# EAGLE library part OKL-T/6-W12N-C (library OKL_T6_W12N_C)
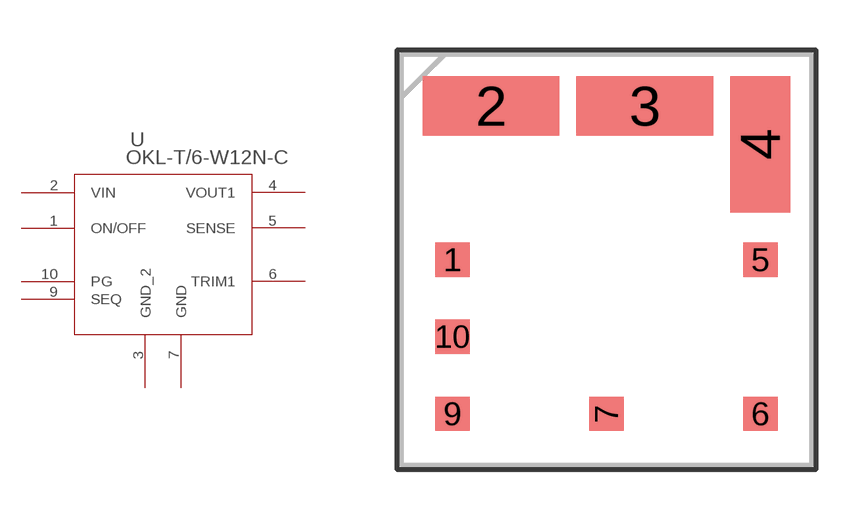
[diagram p0: symbol with the pads of OKL-T/6-W12N-C_MUR; footprint OKL-T/6-W12N-C_MUR]

Designator prefix U

## OKL-T/6-W12N-C (COPYRIGHT: Copyright (C) 2025 Ultra Librarian. All rights reserved.; MANUFACTURER_PART_NUMBER: OKL-T/6-W12N-C; MFR_NAME: Murata)  [OKL-T/6-W12N-C_MUR]
1  ON/OFF  pas
2  VIN  in
3  GND_2  pas
4  VOUT1  out
5  SENSE  pas
6  TRIM1  pas
7  GND  pas
9  SEQ  pas
10  PG  pas

## Footprint OKL-T/6-W12N-C_MUR (pad centres in mm)
smd 1.016 x 1.016: 1 -4.575,0; 5 4.575,0; 6 4.575,-4.58; 7 0,-4.58; 9 -4.575,-4.58; 10 -4.575,-2.29
smd 4.064 x 1.778: 2 -3.43,4.574; 3 1.14,4.574
smd 1.778 x 4.064: 4 4.57,3.431